# Altium schematic symbol library pporyzala-TI_Lighting.SchLib: 745 symbols (part 23 of 48)
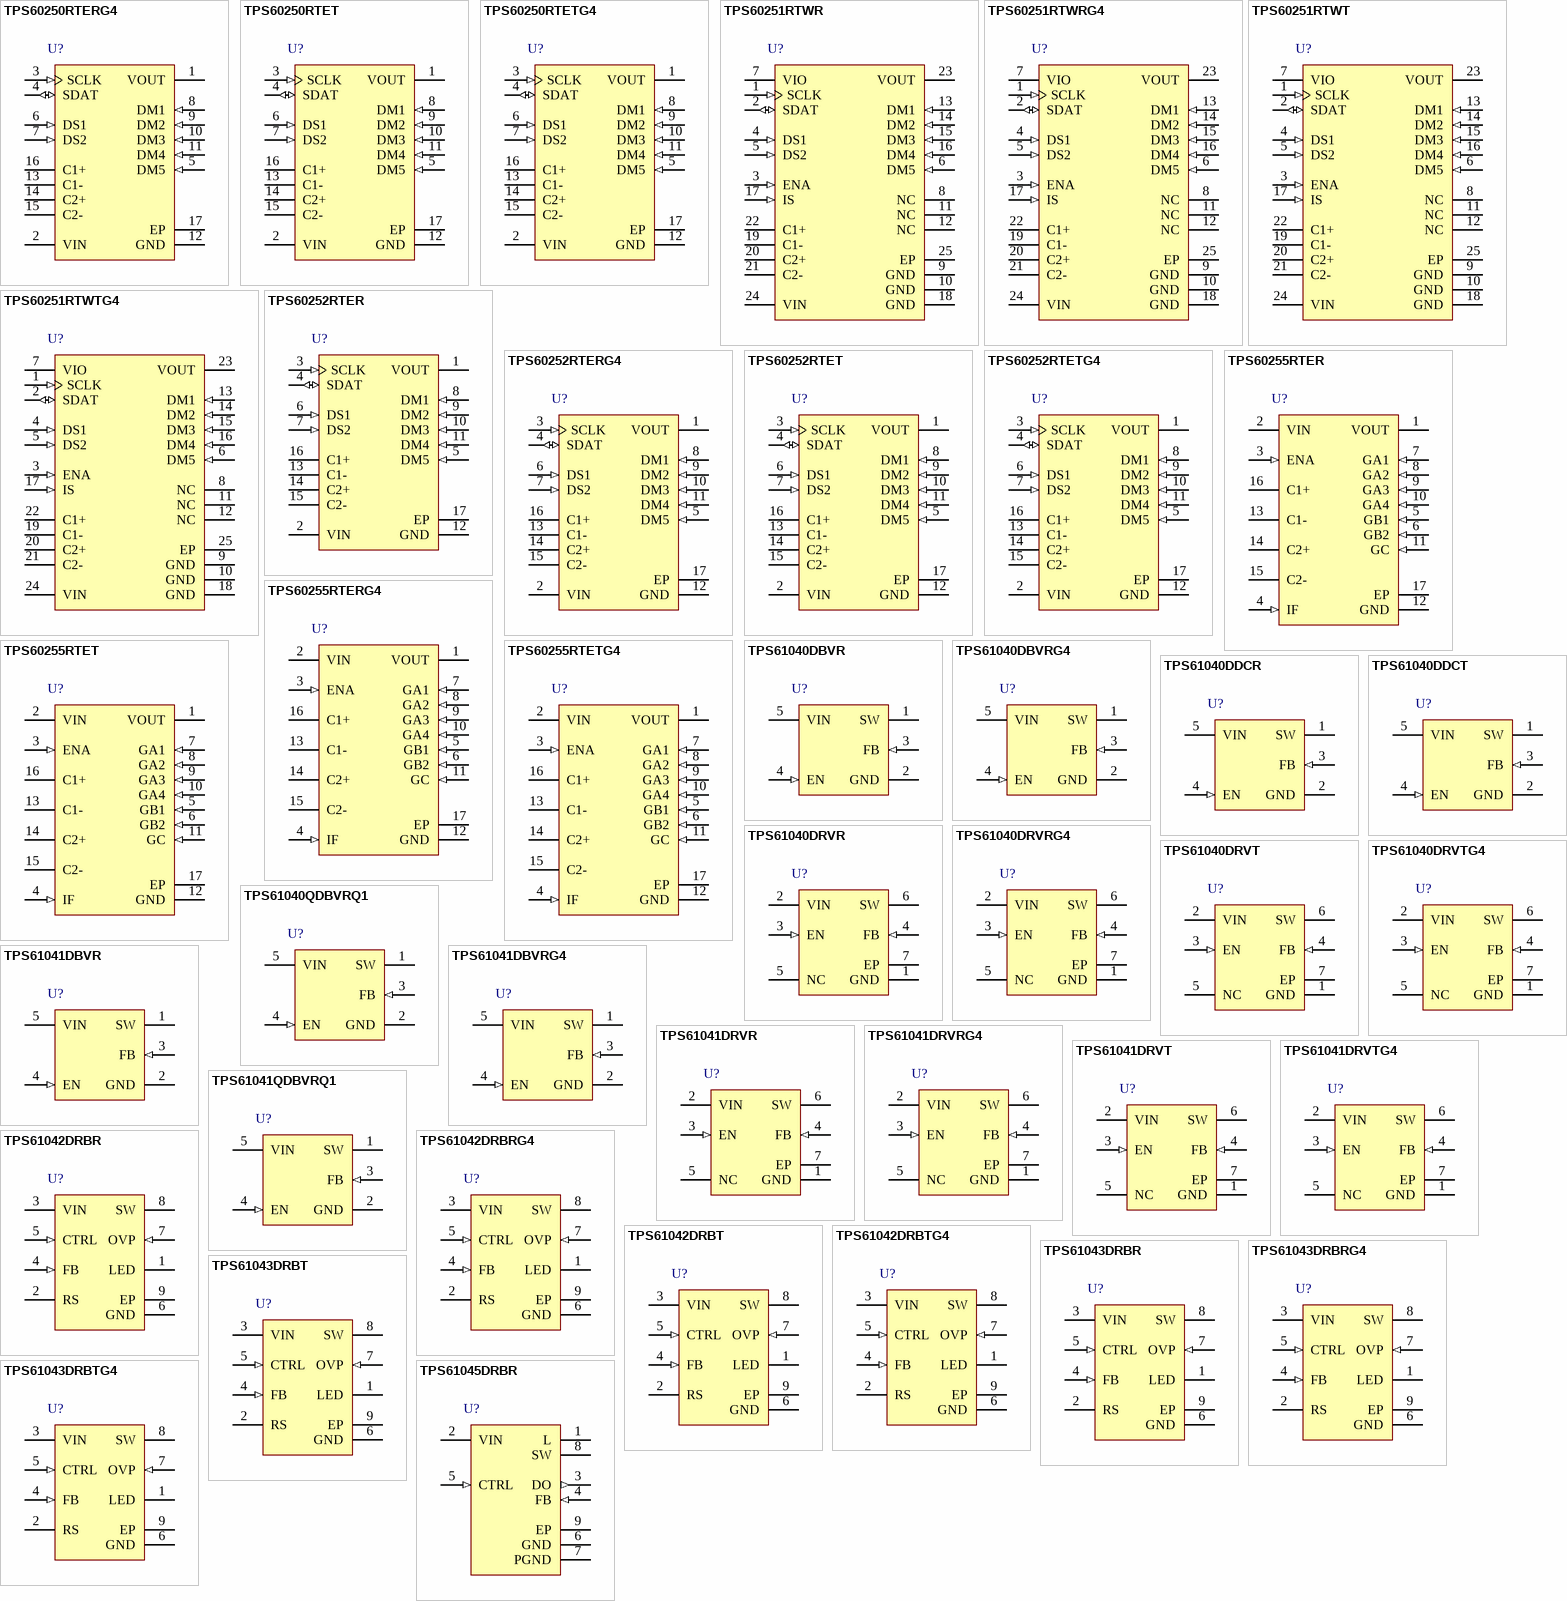
[diagram p53: symbols TPS60250RTERG4 to TPS61045DRBR]

## TPS61041DRVT
designator U?
28 V, 250 mA Switch Boost Converter for LCD and White LED Applications, 1.8 to 6 V, -40 to 85 degC, 6-pin SON (DRV6), Green (RoHS & no Sb/Br); Manufacturer: Texas Instruments; PartNumber: TPS61041DRVT; Dimming: TRUE; Iout(Max)(A): 0.05; Iq(Typ)(mA): 0.028; Rating: Catalog; SubFamily: White LED Driver; Switching Frequency(Max)(kHz): 1000; Vin(Max)(V): 6; Vin(Min)(V): 1.8; DatasheetVersion: SLVS413F; PackageVersion: 4206925/E; PackageReference: DRV6-1600X1000TP; PackageDescription: 6-Pin Plastic Small Outline No-Lead, Body 2 x 2 mm, Pitch 0.65 mm; Supplier 1: Digi-Key; Supplier Part Number 1: TPS61041DRVT-ND; Supplier 2: Newark; Supplier Part Number 2: 72M4770; Supplier 3: Mouser; Supplier Part Number 3: 595-TPS61041DRVT; Eco-Plan: Green (RoHS & no Sb/Br); Topology: Boost; Mounting Technology: Surface Mount; ComponentLink1Description: Manufacturer URL; ComponentLink1URL: http://www.ti.com/; ComponentLink2Description: Datasheet; ComponentLink2URL: http://www.ti.com/general/docs/lit/getliterature.tsp?genericPartNumber=TPS61041&fileType=pdf; ComponentLink3Description: Package Specification; ComponentLink3URL: http://www.ti.com/litv/pdf/mpds216d
footprint TI-DRV6-1600X1000TP_V (SON, 6-Leads, Body 2x2mm, Pitch 0.65mm, Thermal Pad 1X1.6mm)
pins: 1 GND (power) "Ground", 2 VIN (power) "Supply voltage pin", 3 EN (in) "This is the enable pin of the device. Pulling this pin to ground forces the device into shutdown mode reducing the supply current to less than 1 uA. This pin should not be left floating and needs to be terminated.", 4 FB (in) "This is the feedback pin of the device. Connect this pin to the external voltage divider to program the desired output voltage.", 5 NC "No connection", 6 SW (power) "Connect the inductor and the Schottky diode to this pin. This is the switch pin and is connected to the drain of the internal power MOSFET.", 7 EP "Exposed Thermal Pad."

## TPS61041DRVTG4
designator U?
28 V, 250 mA Switch Boost Converter for LCD and White LED Applications, 1.8 to 6 V, -40 to 85 degC, 6-pin SON (DRV6), Green (RoHS & no Sb/Br); Manufacturer: Texas Instruments; PartNumber: TPS61041DRVTG4; Dimming: TRUE; Iout(Max)(A): 0.05; Iq(Typ)(mA): 0.028; Rating: Catalog; SubFamily: White LED Driver; Switching Frequency(Max)(kHz): 1000; Vin(Max)(V): 6; Vin(Min)(V): 1.8; DatasheetVersion: SLVS413F; PackageVersion: 4206925/E; PackageReference: DRV6-1600X1000TP; PackageDescription: 6-Pin Plastic Small Outline No-Lead, Body 2 x 2 mm, Pitch 0.65 mm; Supplier 1: Digi-Key; Supplier Part Number 1: TPS61041DRVTG4-ND; Supplier 2: Mouser; Supplier Part Number 2: 595-TPS61041DRVTG4; Eco-Plan: Green (RoHS & no Sb/Br); Topology: Boost; Mounting Technology: Surface Mount; ComponentLink1Description: Manufacturer URL; ComponentLink1URL: http://www.ti.com/; ComponentLink2Description: Datasheet; ComponentLink2URL: http://www.ti.com/general/docs/lit/getliterature.tsp?genericPartNumber=TPS61041&fileType=pdf; ComponentLink3Description: Package Specification; ComponentLink3URL: http://www.ti.com/litv/pdf/mpds216d
footprint TI-DRV6-1600X1000TP_V (SON, 6-Leads, Body 2x2mm, Pitch 0.65mm, Thermal Pad 1X1.6mm)
pins: 1 GND (power) "Ground", 2 VIN (power) "Supply voltage pin", 3 EN (in) "This is the enable pin of the device. Pulling this pin to ground forces the device into shutdown mode reducing the supply current to less than 1 uA. This pin should not be left floating and needs to be terminated.", 4 FB (in) "This is the feedback pin of the device. Connect this pin to the external voltage divider to program the desired output voltage.", 5 NC "No connection", 6 SW (power) "Connect the inductor and the Schottky diode to this pin. This is the switch pin and is connected to the drain of the internal power MOSFET.", 7 EP "Exposed Thermal Pad."

## TPS61041QDBVRQ1
designator U?
Automotive Catalog Low Power DC / DC Boost Conveter, 1.8 to 6 V, -40 to 125 degC, 5-pin SOT23 (DBV5), Green (RoHS & no Sb/Br); Manufacturer: Texas Instruments; PartNumber: TPS61041QDBVRQ1; Dimming: TRUE; Iout(Max)(A): 0.05; Iq(Typ)(mA): 0.028; SubFamily: White LED Driver; Switching Frequency(Max)(kHz): 1000; Vin(Max)(V): 6; Vin(Min)(V): 1.8; DatasheetVersion: SGLS276C; PackageVersion: 4073253-4/K; PackageReference: DBV5; PackageDescription: 5-Pin Plastic Small Outline, Body 1.60 × 2.90 mm, Pitch 0.95 mm; Supplier 1: Digi-Key; Supplier Part Number 1: 296-21895-2-ND; Supplier 2: Digi-Key; Supplier Part Number 2: 296-21895-1-ND; Supplier 3: Digi-Key; Supplier Part Number 3: 296-21895-6-ND; Supplier 4: Newark; Supplier Part Number 4: 73J8386; Supplier 5: Mouser; Supplier Part Number 5: 595-TPS61041QDBVRQ1; Eco-Plan: Green (RoHS & no Sb/Br); Rating: Automotive; Topology: Boost; Mounting Technology: Surface Mount; Code_JEDEC: MO-178; ComponentLink1Description: Manufacturer URL; ComponentLink1URL: http://www.ti.com/; ComponentLink2Description: Datasheet; ComponentLink2URL: http://www.ti.com/general/docs/lit/getliterature.tsp?genericPartNumber=TPS61041-Q1&fileType=pdf; ComponentLink3Description: Package Specification; ComponentLink3URL: http://www.ti.com/litv/pdf/mpds018i
footprint TI-DBV5_N (SOT23, 5-Leads, Body 2.9x1.6mm, Pitch 0.95mm, IPC Medium Density)
footprint TI-DBV5_L (SOT23, 5-Leads, Body 2.9x1.6mm, Pitch 0.95mm, IPC High Density)
footprint TI-DBV5_M (SOT23, 5-Leads, Body 2.9x1.6mm, Pitch 0.95mm, IPC Low Density)
pins: 1 SW (power) "Connect the inductor and the Schottky diode to this pin. This is the switch pin and is connected to the drain of the internal power MOSFET.", 2 GND (power) "Ground", 3 FB (in) "This is the feedback pin of the device. Connect this pin to the external voltage divider to program the desired output voltage.", 4 EN (in) "This is the enable pin of the device. Pulling this pin to ground forces the device into shutdown mode reducing the supply current to less than 1 µA. This pin should not be left floating and needs to be terminated.", 5 VIN (power) "Supply voltage pin"

## TPS61042DRBR
designator U?
30 V, 500 mA Switch Boost Converter for White LED Applications, 1.8 to 6 V, -40 to 85 degC, 8-pin SON (DRB8), Green (RoHS & no Sb/Br); Manufacturer: Texas Instruments; PartNumber: TPS61042DRBR; Dimming: TRUE; Iout(Max)(A): 0.03; Iq(Typ)(mA): 0.038; Rating: Catalog; SubFamily: White LED Driver; Switching Frequency(Max)(kHz): 1000; Vin(Max)(V): 6; Vin(Min)(V): 1.8; DatasheetVersion: SLVS441C; PackageVersion: 4203482-2/K; PackageReference: DRB8-1750X1500TP; PackageDescription: 8-Pin Plastic Small Outline, Body 3 x 3 mm, Pitch 0.65 mm; Supplier 1: Digi-Key; Supplier Part Number 1: 296-14449-2-ND; Supplier 2: Digi-Key; Supplier Part Number 2: 296-14449-1-ND; Supplier 3: Digi-Key; Supplier Part Number 3: 296-14449-6-ND; Supplier 4: Farnell; Supplier Part Number 4: 1470481; Supplier 5: Newark; Supplier Part Number 5: 80K6166; Supplier 6: Mouser; Supplier Part Number 6: 595-TPS61042DRBR; Eco-Plan: Green (RoHS & no Sb/Br); Topology: Boost; Mounting Technology: Surface Mount; ComponentLink1Description: Manufacturer URL; ComponentLink1URL: http://www.ti.com/; ComponentLink2Description: Datasheet; ComponentLink2URL: http://www.ti.com/general/docs/lit/getliterature.tsp?genericPartNumber=TPS61042&fileType=pdf; ComponentLink3Description: Package Specification; ComponentLink3URL: http://www.ti.com/litv/pdf/mpds118h
footprint TI-DRB8-1750X1500TP_V (SON, 8-Leads, Body 3x3mm, Pitch 0.65mm, Thermal Pad 1.50 x 3.8mm)
pins: 1 LED "Input of the LED switch (Q2). Connect the LEDs to this pin.", 2 RS "Output of the internal LED switch. The sense resistor that programs the LED current is connected to RS.", 3 VIN (power) "Input supply pin.", 4 FB (in) "Feedback. FB regulates the LED current through the sense resistor by regulating the voltage across RS to 252mV.", 5 CTRL (in) "Combined enable and PWM control pin. If CTRL is constantly pulled high, the device is enabled and the internal LED switch (Q2) is constantly turned on. When CTRL is pulled to GND, the device is disabled. Apply a PWM signal (See Datasheet)", 6 GND (power), 7 OVP (in) "Overvoltage protection. OVP is connected to the output capacitor of the converter", 8 SW (power) "Drain of the integrated switch (Q1)", 9 EP (power) "Exposed Thermal Pad"

## TPS61042DRBRG4
designator U?
30 V, 500 mA Switch Boost Converter for White LED Applications, 1.8 to 6 V, -40 to 85 degC, 8-pin SON (DRB8), Green (RoHS & no Sb/Br); Manufacturer: Texas Instruments; PartNumber: TPS61042DRBRG4; Dimming: TRUE; Iout(Max)(A): 0.03; Iq(Typ)(mA): 0.038; Rating: Catalog; SubFamily: White LED Driver; Switching Frequency(Max)(kHz): 1000; Vin(Max)(V): 6; Vin(Min)(V): 1.8; DatasheetVersion: SLVS441C; PackageVersion: 4203482-2/K; PackageReference: DRB8-1750X1500TP; PackageDescription: 8-Pin Plastic Small Outline, Body 3 x 3 mm, Pitch 0.65 mm; Supplier 1: Digi-Key; Supplier Part Number 1: TPS61042DRBRG4-ND; Supplier 2: Newark; Supplier Part Number 2: 99K4411; Supplier 3: Mouser; Supplier Part Number 3: 595-TPS61042DRBRG4; Eco-Plan: Green (RoHS & no Sb/Br); Topology: Boost; Mounting Technology: Surface Mount; ComponentLink1Description: Manufacturer URL; ComponentLink1URL: http://www.ti.com/; ComponentLink2Description: Datasheet; ComponentLink2URL: http://www.ti.com/general/docs/lit/getliterature.tsp?genericPartNumber=TPS61042&fileType=pdf; ComponentLink3Description: Package Specification; ComponentLink3URL: http://www.ti.com/litv/pdf/mpds118h
footprint TI-DRB8-1750X1500TP_V (SON, 8-Leads, Body 3x3mm, Pitch 0.65mm, Thermal Pad 1.50 x 3.8mm)
pins: 1 LED "Input of the LED switch (Q2). Connect the LEDs to this pin.", 2 RS "Output of the internal LED switch. The sense resistor that programs the LED current is connected to RS.", 3 VIN (power) "Input supply pin.", 4 FB (in) "Feedback. FB regulates the LED current through the sense resistor by regulating the voltage across RS to 252mV.", 5 CTRL (in) "Combined enable and PWM control pin. If CTRL is constantly pulled high, the device is enabled and the internal LED switch (Q2) is constantly turned on. When CTRL is pulled to GND, the device is disabled. Apply a PWM signal (See Datasheet)", 6 GND (power), 7 OVP (in) "Overvoltage protection. OVP is connected to the output capacitor of the converter", 8 SW (power) "Drain of the integrated switch (Q1)", 9 EP (power) "Exposed Thermal Pad"

## TPS61042DRBT
designator U?
30 V, 500 mA Switch Boost Converter for White LED Applications, 1.8 to 6 V, -40 to 85 degC, 8-pin SON (DRB8), Green (RoHS & no Sb/Br); Manufacturer: Texas Instruments; PartNumber: TPS61042DRBT; Dimming: TRUE; Iout(Max)(A): 0.03; Iq(Typ)(mA): 0.038; Rating: Catalog; SubFamily: White LED Driver; Switching Frequency(Max)(kHz): 1000; Vin(Max)(V): 6; Vin(Min)(V): 1.8; DatasheetVersion: SLVS441C; PackageVersion: 4203482-2/K; PackageReference: DRB8-1750X1500TP; PackageDescription: 8-Pin Plastic Small Outline, Body 3 x 3 mm, Pitch 0.65 mm; Supplier 1: Digi-Key; Supplier Part Number 1: 296-27008-2-ND; Supplier 2: Digi-Key; Supplier Part Number 2: 296-27008-1-ND; Supplier 3: Digi-Key; Supplier Part Number 3: 296-27008-6-ND; Supplier 4: Newark; Supplier Part Number 4: 32H6569; Supplier 5: Mouser; Supplier Part Number 5: 595-TPS61042DRBT; Eco-Plan: Green (RoHS & no Sb/Br); Topology: Boost; Mounting Technology: Surface Mount; ComponentLink1Description: Manufacturer URL; ComponentLink1URL: http://www.ti.com/; ComponentLink2Description: Datasheet; ComponentLink2URL: http://www.ti.com/general/docs/lit/getliterature.tsp?genericPartNumber=TPS61042&fileType=pdf; ComponentLink3Description: Package Specification; ComponentLink3URL: http://www.ti.com/litv/pdf/mpds118h
footprint TI-DRB8-1750X1500TP_V (SON, 8-Leads, Body 3x3mm, Pitch 0.65mm, Thermal Pad 1.50 x 3.8mm)
pins: 1 LED "Input of the LED switch (Q2). Connect the LEDs to this pin.", 2 RS "Output of the internal LED switch. The sense resistor that programs the LED current is connected to RS.", 3 VIN (power) "Input supply pin.", 4 FB (in) "Feedback. FB regulates the LED current through the sense resistor by regulating the voltage across RS to 252mV.", 5 CTRL (in) "Combined enable and PWM control pin. If CTRL is constantly pulled high, the device is enabled and the internal LED switch (Q2) is constantly turned on. When CTRL is pulled to GND, the device is disabled. Apply a PWM signal (See Datasheet)", 6 GND (power), 7 OVP (in) "Overvoltage protection. OVP is connected to the output capacitor of the converter", 8 SW (power) "Drain of the integrated switch (Q1)", 9 EP (power) "Exposed Thermal Pad"

## TPS61042DRBTG4
designator U?
30 V, 500 mA Switch Boost Converter for White LED Applications, 1.8 to 6 V, -40 to 85 degC, 8-pin SON (DRB8), Green (RoHS & no Sb/Br); Manufacturer: Texas Instruments; PartNumber: TPS61042DRBTG4; Dimming: TRUE; Iout(Max)(A): 0.03; Iq(Typ)(mA): 0.038; Rating: Catalog; SubFamily: White LED Driver; Switching Frequency(Max)(kHz): 1000; Vin(Max)(V): 6; Vin(Min)(V): 1.8; DatasheetVersion: SLVS441C; PackageVersion: 4203482-2/K; PackageReference: DRB8-1750X1500TP; PackageDescription: 8-Pin Plastic Small Outline, Body 3 x 3 mm, Pitch 0.65 mm; Supplier 1: Digi-Key; Supplier Part Number 1: TPS61042DRBTG4-ND; Supplier 2: Mouser; Supplier Part Number 2: 595-TPS61042DRBTG4; Eco-Plan: Green (RoHS & no Sb/Br); Topology: Boost; Mounting Technology: Surface Mount; ComponentLink1Description: Manufacturer URL; ComponentLink1URL: http://www.ti.com/; ComponentLink2Description: Datasheet; ComponentLink2URL: http://www.ti.com/general/docs/lit/getliterature.tsp?genericPartNumber=TPS61042&fileType=pdf; ComponentLink3Description: Package Specification; ComponentLink3URL: http://www.ti.com/litv/pdf/mpds118h
footprint TI-DRB8-1750X1500TP_V (SON, 8-Leads, Body 3x3mm, Pitch 0.65mm, Thermal Pad 1.50 x 3.8mm)
pins: 1 LED "Input of the LED switch (Q2). Connect the LEDs to this pin.", 2 RS "Output of the internal LED switch. The sense resistor that programs the LED current is connected to RS.", 3 VIN (power) "Input supply pin.", 4 FB (in) "Feedback. FB regulates the LED current through the sense resistor by regulating the voltage across RS to 252mV.", 5 CTRL (in) "Combined enable and PWM control pin. If CTRL is constantly pulled high, the device is enabled and the internal LED switch (Q2) is constantly turned on. When CTRL is pulled to GND, the device is disabled. Apply a PWM signal (See Datasheet)", 6 GND (power), 7 OVP (in) "Overvoltage protection. OVP is connected to the output capacitor of the converter", 8 SW (power) "Drain of the integrated switch (Q1)", 9 EP (power) "Exposed Thermal Pad"

## TPS61043DRBR
designator U?
Constant Current LED Driver, 1.8 to 6 V, -40 to 85 degC, 8-pin SON (DRB8), Green (RoHS & no Sb/Br); Manufacturer: Texas Instruments; PartNumber: TPS61043DRBR; Dimming: TRUE; Iout(Max)(A): 0.03; Iq(Typ)(mA): 0.038; Rating: Catalog; SubFamily: White LED Driver; Switching Frequency(Max)(kHz): 1000; Topology: Boost; Vin(Max)(V): 6; Vin(Min)(V): 1.8; DatasheetVersion: SLVS465A; PackageVersion: 4203482-2/K; PackageReference: DRB8-1750X1500TP; PackageDescription: 8-Pin Plastic Small Outline, Body 3 x 3 mm, Pitch 0.65 mm; Supplier 1: Digi-Key; Supplier Part Number 1: 296-16675-2-ND; Supplier 2: Digi-Key; Supplier Part Number 2: 296-16675-1-ND; Supplier 3: Digi-Key; Supplier Part Number 3: 296-16675-6-ND; Supplier 4: Newark; Supplier Part Number 4: 90H4862; Supplier 5: Mouser; Supplier Part Number 5: 595-TPS61043DRBR; Eco-Plan: Green (RoHS & no Sb/Br); Mounting Technology: Surface Mount; ComponentLink1Description: Manufacturer URL; ComponentLink1URL: http://www.ti.com/; ComponentLink2Description: Datasheet; ComponentLink2URL: http://www.ti.com/general/docs/lit/getliterature.tsp?genericPartNumber=TPS61043&fileType=pdf; ComponentLink3Description: Package Specification; ComponentLink3URL: http://www.ti.com/litv/pdf/mpds118h
footprint TI-DRB8-1750X1500TP_V (SON, 8-Leads, Body 3x3mm, Pitch 0.65mm, Thermal Pad 1.50 x 3.8mm)
pins: 1 LED "Input of the LED switch (Q2). Connect the LEDs to this pin.", 2 RS "Output of the internal LED switch. The sense resistor that programs the LED current is connected to RS.", 3 VIN (power) "Input supply pin.", 4 FB (in) "Feedback. FB regulates the LED current through the sense resistor by regulating the voltage across RS to 252 mV.", 5 CTRL (in) "Combined enable and PWM control pin. If CTRL is constantly pulled high, the device is enabled and the internal LED switch (Q2) is constantly turned on. When CTRL is pulled to GND, the device is disabled. Apply a PWM signal (See Datasheet)", 6 GND (power), 7 OVP (in) "Overvoltage protection. OVP is connected to the output capacitor of the converter.", 8 SW (power) "Drain of the integrated switch (Q1)", 9 EP (power) "The exposed thermal die pad is connected to GND."

## TPS61043DRBRG4
designator U?
Constant Current LED Driver, 1.8 to 6 V, -40 to 85 degC, 8-pin SON (DRB8), Green (RoHS & no Sb/Br); Manufacturer: Texas Instruments; PartNumber: TPS61043DRBRG4; Dimming: TRUE; Iout(Max)(A): 0.03; Iq(Typ)(mA): 0.038; Rating: Catalog; SubFamily: White LED Driver; Switching Frequency(Max)(kHz): 1000; Topology: Boost; Vin(Max)(V): 6; Vin(Min)(V): 1.8; DatasheetVersion: SLVS465A; PackageVersion: 4203482-2/K; PackageReference: DRB8-1750X1500TP; PackageDescription: 8-Pin Plastic Small Outline, Body 3 x 3 mm, Pitch 0.65 mm; Supplier 1: Digi-Key; Supplier Part Number 1: TPS61043DRBRG4-ND; Supplier 2: Newark; Supplier Part Number 2: 24K6023; Supplier 3: Mouser; Supplier Part Number 3: 595-TPS61043DRBRG4; Eco-Plan: Green (RoHS & no Sb/Br); Mounting Technology: Surface Mount; ComponentLink1Description: Manufacturer URL; ComponentLink1URL: http://www.ti.com/; ComponentLink2Description: Datasheet; ComponentLink2URL: http://www.ti.com/general/docs/lit/getliterature.tsp?genericPartNumber=TPS61043&fileType=pdf; ComponentLink3Description: Package Specification; ComponentLink3URL: http://www.ti.com/litv/pdf/mpds118h
footprint TI-DRB8-1750X1500TP_V (SON, 8-Leads, Body 3x3mm, Pitch 0.65mm, Thermal Pad 1.50 x 3.8mm)
pins: 1 LED "Input of the LED switch (Q2). Connect the LEDs to this pin.", 2 RS "Output of the internal LED switch. The sense resistor that programs the LED current is connected to RS.", 3 VIN (power) "Input supply pin.", 4 FB (in) "Feedback. FB regulates the LED current through the sense resistor by regulating the voltage across RS to 252 mV.", 5 CTRL (in) "Combined enable and PWM control pin. If CTRL is constantly pulled high, the device is enabled and the internal LED switch (Q2) is constantly turned on. When CTRL is pulled to GND, the device is disabled. Apply a PWM signal (See Datasheet)", 6 GND (power), 7 OVP (in) "Overvoltage protection. OVP is connected to the output capacitor of the converter.", 8 SW (power) "Drain of the integrated switch (Q1)", 9 EP (power) "The exposed thermal die pad is connected to GND."

## TPS61043DRBT
designator U?
Constant Current LED Driver, 1.8 to 6 V, -40 to 85 degC, 8-pin SON (DRB8), Green (RoHS & no Sb/Br); Manufacturer: Texas Instruments; PartNumber: TPS61043DRBT; Dimming: TRUE; Iout(Max)(A): 0.03; Iq(Typ)(mA): 0.038; Rating: Catalog; SubFamily: White LED Driver; Switching Frequency(Max)(kHz): 1000; Topology: Boost; Vin(Max)(V): 6; Vin(Min)(V): 1.8; DatasheetVersion: SLVS465A; PackageVersion: 4203482-2/K; PackageReference: DRB8-1750X1500TP; PackageDescription: 8-Pin Plastic Small Outline, Body 3 x 3 mm, Pitch 0.65 mm; Supplier 1: Digi-Key; Supplier Part Number 1: 296-27009-2-ND; Supplier 2: Digi-Key; Supplier Part Number 2: 296-27009-1-ND; Supplier 3: Digi-Key; Supplier Part Number 3: 296-27009-6-ND; Supplier 4: Newark; Supplier Part Number 4: 90H4863; Supplier 5: Mouser; Supplier Part Number 5: 595-TPS61043DRBT; Eco-Plan: Green (RoHS & no Sb/Br); Mounting Technology: Surface Mount; ComponentLink1Description: Manufacturer URL; ComponentLink1URL: http://www.ti.com/; ComponentLink2Description: Datasheet; ComponentLink2URL: http://www.ti.com/general/docs/lit/getliterature.tsp?genericPartNumber=TPS61043&fileType=pdf; ComponentLink3Description: Package Specification; ComponentLink3URL: http://www.ti.com/litv/pdf/mpds118h
footprint TI-DRB8-1750X1500TP_V (SON, 8-Leads, Body 3x3mm, Pitch 0.65mm, Thermal Pad 1.50 x 3.8mm)
pins: 1 LED "Input of the LED switch (Q2). Connect the LEDs to this pin.", 2 RS "Output of the internal LED switch. The sense resistor that programs the LED current is connected to RS.", 3 VIN (power) "Input supply pin.", 4 FB (in) "Feedback. FB regulates the LED current through the sense resistor by regulating the voltage across RS to 252 mV.", 5 CTRL (in) "Combined enable and PWM control pin. If CTRL is constantly pulled high, the device is enabled and the internal LED switch (Q2) is constantly turned on. When CTRL is pulled to GND, the device is disabled. Apply a PWM signal (See Datasheet)", 6 GND (power), 7 OVP (in) "Overvoltage protection. OVP is connected to the output capacitor of the converter.", 8 SW (power) "Drain of the integrated switch (Q1)", 9 EP (power) "The exposed thermal die pad is connected to GND."

## TPS61043DRBTG4
designator U?
Constant Current LED Driver, 1.8 to 6 V, -40 to 85 degC, 8-pin SON (DRB8), Green (RoHS & no Sb/Br); Manufacturer: Texas Instruments; PartNumber: TPS61043DRBTG4; Dimming: TRUE; Iout(Max)(A): 0.03; Iq(Typ)(mA): 0.038; Rating: Catalog; SubFamily: White LED Driver; Switching Frequency(Max)(kHz): 1000; Topology: Boost; Vin(Max)(V): 6; Vin(Min)(V): 1.8; DatasheetVersion: SLVS465A; PackageVersion: 4203482-2/K; PackageReference: DRB8-1750X1500TP; PackageDescription: 8-Pin Plastic Small Outline, Body 3 x 3 mm, Pitch 0.65 mm; Supplier 1: Digi-Key; Supplier Part Number 1: TPS61043DRBTG4-ND; Supplier 2: Newark; Supplier Part Number 2: 52M6121; Supplier 3: Mouser; Supplier Part Number 3: 595-TPS61043DRBTG4; Eco-Plan: Green (RoHS & no Sb/Br); Mounting Technology: Surface Mount; ComponentLink1Description: Manufacturer URL; ComponentLink1URL: http://www.ti.com/; ComponentLink2Description: Datasheet; ComponentLink2URL: http://www.ti.com/general/docs/lit/getliterature.tsp?genericPartNumber=TPS61043&fileType=pdf; ComponentLink3Description: Package Specification; ComponentLink3URL: http://www.ti.com/litv/pdf/mpds118h
footprint TI-DRB8-1750X1500TP_V (SON, 8-Leads, Body 3x3mm, Pitch 0.65mm, Thermal Pad 1.50 x 3.8mm)
pins: 1 LED "Input of the LED switch (Q2). Connect the LEDs to this pin.", 2 RS "Output of the internal LED switch. The sense resistor that programs the LED current is connected to RS.", 3 VIN (power) "Input supply pin.", 4 FB (in) "Feedback. FB regulates the LED current through the sense resistor by regulating the voltage across RS to 252 mV.", 5 CTRL (in) "Combined enable and PWM control pin. If CTRL is constantly pulled high, the device is enabled and the internal LED switch (Q2) is constantly turned on. When CTRL is pulled to GND, the device is disabled. Apply a PWM signal (See Datasheet)", 6 GND (power), 7 OVP (in) "Overvoltage protection. OVP is connected to the output capacitor of the converter.", 8 SW (power) "Drain of the integrated switch (Q1)", 9 EP (power) "The exposed thermal die pad is connected to GND."

## TPS61045DRBR
designator U?
28 V, 85% Efficient Boost Converter, Digitally Adjustable, 1.8 to 6 V, -40 to 85 degC, 8-pin SON (DRB8), Green (RoHS & no Sb/Br); Manufacturer: Texas Instruments; PartNumber: TPS61045DRBR; Iout(Max)(A): 0.02; Iq(Typ)(mA): 0.04; Rating: Catalog; SubFamily: White LED Driver; Switching Frequency(Max)(kHz): 1000; Vin(Max)(V): 6; Vin(Min)(V): 1.8; DatasheetVersion: SLVS440B; PackageVersion: 4203482-2/K; PackageReference: DRB8-1750X1500TP; PackageDescription: 8-Pin Plastic Small Outline, Body 3 x 3 mm, Pitch 0.65 mm; Supplier 1: Digi-Key; Supplier Part Number 1: 296-14419-2-ND; Supplier 2: Digi-Key; Supplier Part Number 2: 296-14419-1-ND; Supplier 3: Digi-Key; Supplier Part Number 3: 296-14419-6-ND; Supplier 4: Newark; Supplier Part Number 4: 32H6571; Supplier 5: Mouser; Supplier Part Number 5: 595-TPS61045DRBR; Eco-Plan: Green (RoHS & no Sb/Br); Topology: Boost; Mounting Technology: Surface Mount; ComponentLink1Description: Manufacturer URL; ComponentLink1URL: http://www.ti.com/; ComponentLink2Description: Datasheet; ComponentLink2URL: http://www.ti.com/general/docs/lit/getliterature.tsp?genericPartNumber=TPS61045&fileType=pdf; ComponentLink3Description: Package Specification; ComponentLink3URL: http://www.ti.com/litv/pdf/mpds118h
footprint TI-DRB8-1750X1500TP_V (SON, 8-Leads, Body 3x3mm, Pitch 0.65mm, Thermal Pad 1.50 x 3.8mm)
pins: 1 L (power) "Drain of the internal input switch (Q1). Connect L to the inductor.", 2 VIN (power) "Input supply pin", 3 DO (out) "Internal DAC output. DO programs the output voltage via the CTRL pin. Refer to the application information section for further information.", 4 FB (in) "Feedback. FB must be connected to the output voltage-feedback divider.", 5 CTRL (in) "Combined enable and digital output voltage programming pin. Pulling CTRL constantly high enables the device. When CTRL is pulled to GND, the device is disabled and the input is disconnected from the output by opening the (See Datasheet)", 6 GND (power) "Analog ground. GND must be directly connected to the PGND pin. Refer to the application information section for further information.", 7 PGND (power) "Power ground", 8 SW (power) "Drain of the integrated main switch Q2. SW is connected to the inductor and anode of the Schottky rectifier diode.", 9 EP (power) "Exposed thermal pad"

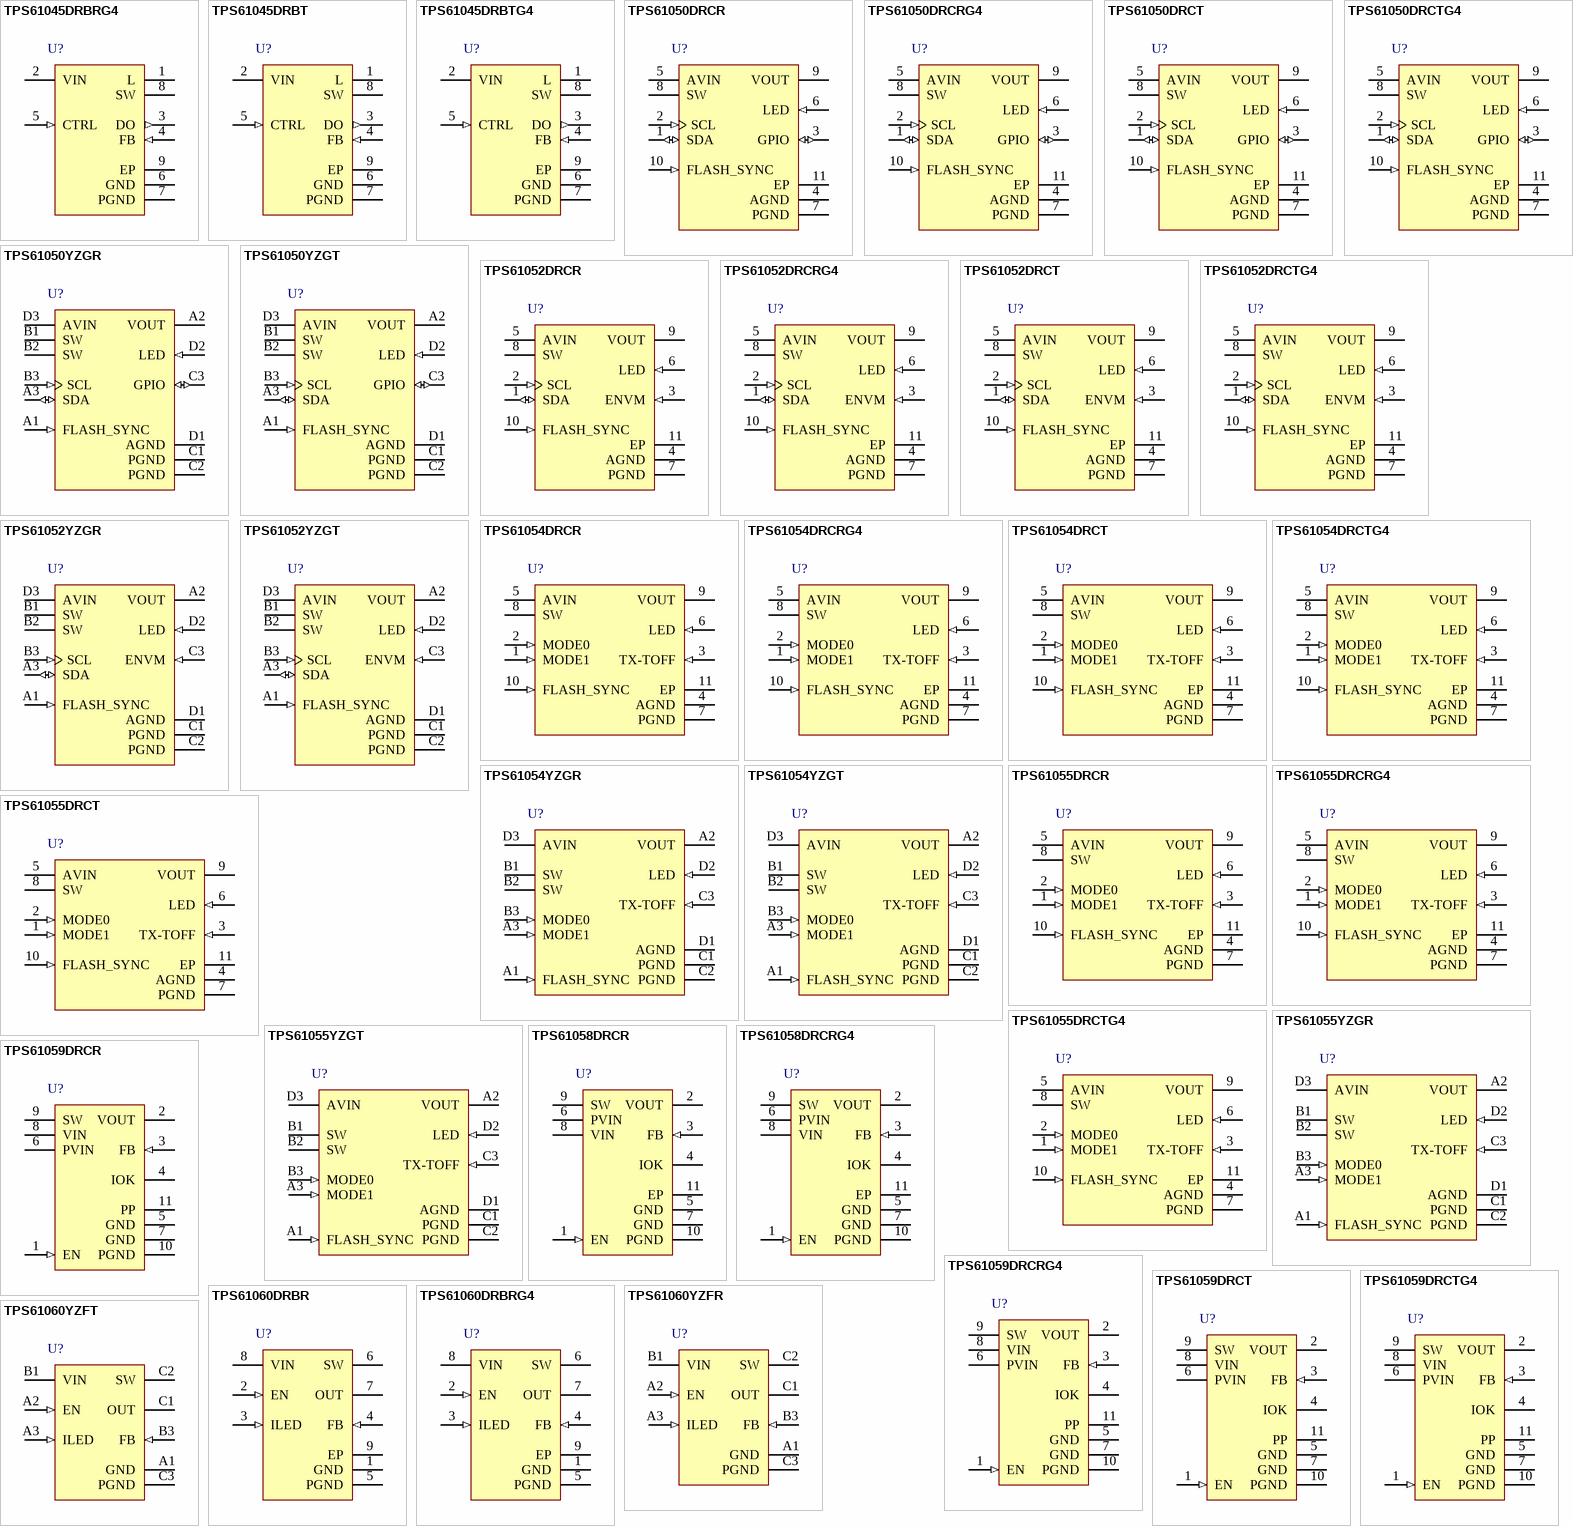
[diagram p16: symbols TPS61045DRBRG4 to TPS61060YZFT]

## TPS61045DRBRG4
designator U?
28 V, 85% Efficient Boost Converter, Digitally Adjustable, 1.8 to 6 V, -40 to 85 degC, 8-pin SON (DRB8), Green (RoHS & no Sb/Br); Manufacturer: Texas Instruments; PartNumber: TPS61045DRBRG4; Iout(Max)(A): 0.02; Iq(Typ)(mA): 0.04; Rating: Catalog; SubFamily: White LED Driver; Switching Frequency(Max)(kHz): 1000; Vin(Max)(V): 6; Vin(Min)(V): 1.8; DatasheetVersion: SLVS440B; PackageVersion: 4203482-2/K; PackageReference: DRB8-1750X1500TP; PackageDescription: 8-Pin Plastic Small Outline, Body 3 x 3 mm, Pitch 0.65 mm; Supplier 1: Digi-Key; Supplier Part Number 1: TPS61045DRBRG4-ND; Supplier 2: Newark; Supplier Part Number 2: 52K5942; Supplier 3: Mouser; Supplier Part Number 3: 595-TPS61045DRBRG4; Eco-Plan: Green (RoHS & no Sb/Br); Topology: Boost; Mounting Technology: Surface Mount; ComponentLink1Description: Manufacturer URL; ComponentLink1URL: http://www.ti.com/; ComponentLink2Description: Datasheet; ComponentLink2URL: http://www.ti.com/general/docs/lit/getliterature.tsp?genericPartNumber=TPS61045&fileType=pdf; ComponentLink3Description: Package Specification; ComponentLink3URL: http://www.ti.com/litv/pdf/mpds118h
footprint TI-DRB8-1750X1500TP_V (SON, 8-Leads, Body 3x3mm, Pitch 0.65mm, Thermal Pad 1.50 x 3.8mm)
pins: 1 L (power) "Drain of the internal input switch (Q1). Connect L to the inductor.", 2 VIN (power) "Input supply pin", 3 DO (out) "Internal DAC output. DO programs the output voltage via the CTRL pin. Refer to the application information section for further information.", 4 FB (in) "Feedback. FB must be connected to the output voltage-feedback divider.", 5 CTRL (in) "Combined enable and digital output voltage programming pin. Pulling CTRL constantly high enables the device. When CTRL is pulled to GND, the device is disabled and the input is disconnected from the output by opening the (See Datasheet)", 6 GND (power) "Analog ground. GND must be directly connected to the PGND pin. Refer to the application information section for further information.", 7 PGND (power) "Power ground", 8 SW (power) "Drain of the integrated main switch Q2. SW is connected to the inductor and anode of the Schottky rectifier diode.", 9 EP (power) "Exposed thermal pad"

## TPS61045DRBT
designator U?
28 V, 85% Efficient Boost Converter, Digitally Adjustable, 1.8 to 6 V, -40 to 85 degC, 8-pin SON (DRB8), Green (RoHS & no Sb/Br); Manufacturer: Texas Instruments; PartNumber: TPS61045DRBT; Iout(Max)(A): 0.02; Iq(Typ)(mA): 0.04; Rating: Catalog; SubFamily: White LED Driver; Switching Frequency(Max)(kHz): 1000; Vin(Max)(V): 6; Vin(Min)(V): 1.8; DatasheetVersion: SLVS440B; PackageVersion: 4203482-2/K; PackageReference: DRB8-1750X1500TP; PackageDescription: 8-Pin Plastic Small Outline, Body 3 x 3 mm, Pitch 0.65 mm; Supplier 1: Digi-Key; Supplier Part Number 1: 296-32499-2-ND; Supplier 2: Digi-Key; Supplier Part Number 2: 296-32499-1-ND; Supplier 3: Digi-Key; Supplier Part Number 3: 296-32499-6-ND; Supplier 4: Newark; Supplier Part Number 4: 32H6572; Supplier 5: Mouser; Supplier Part Number 5: 595-TPS61045DRBT; Eco-Plan: Green (RoHS & no Sb/Br); Topology: Boost; Mounting Technology: Surface Mount; ComponentLink1Description: Manufacturer URL; ComponentLink1URL: http://www.ti.com/; ComponentLink2Description: Datasheet; ComponentLink2URL: http://www.ti.com/general/docs/lit/getliterature.tsp?genericPartNumber=TPS61045&fileType=pdf; ComponentLink3Description: Package Specification; ComponentLink3URL: http://www.ti.com/litv/pdf/mpds118h
footprint TI-DRB8-1750X1500TP_V (SON, 8-Leads, Body 3x3mm, Pitch 0.65mm, Thermal Pad 1.50 x 3.8mm)
pins: 1 L (power) "Drain of the internal input switch (Q1). Connect L to the inductor.", 2 VIN (power) "Input supply pin", 3 DO (out) "Internal DAC output. DO programs the output voltage via the CTRL pin. Refer to the application information section for further information.", 4 FB (in) "Feedback. FB must be connected to the output voltage-feedback divider.", 5 CTRL (in) "Combined enable and digital output voltage programming pin. Pulling CTRL constantly high enables the device. When CTRL is pulled to GND, the device is disabled and the input is disconnected from the output by opening the (See Datasheet)", 6 GND (power) "Analog ground. GND must be directly connected to the PGND pin. Refer to the application information section for further information.", 7 PGND (power) "Power ground", 8 SW (power) "Drain of the integrated main switch Q2. SW is connected to the inductor and anode of the Schottky rectifier diode.", 9 EP (power) "Exposed thermal pad"

## TPS61045DRBTG4
designator U?
28 V, 85% Efficient Boost Converter, Digitally Adjustable, 1.8 to 6 V, -40 to 85 degC, 8-pin SON (DRB8), Green (RoHS & no Sb/Br); Manufacturer: Texas Instruments; PartNumber: TPS61045DRBTG4; Iout(Max)(A): 0.02; Iq(Typ)(mA): 0.04; Rating: Catalog; SubFamily: White LED Driver; Switching Frequency(Max)(kHz): 1000; Vin(Max)(V): 6; Vin(Min)(V): 1.8; DatasheetVersion: SLVS440B; PackageVersion: 4203482-2/K; PackageReference: DRB8-1750X1500TP; PackageDescription: 8-Pin Plastic Small Outline, Body 3 x 3 mm, Pitch 0.65 mm; Supplier 1: Digi-Key; Supplier Part Number 1: TPS61045DRBTG4-ND; Supplier 2: Farnell; Supplier Part Number 2: 1226311; Supplier 3: Newark; Supplier Part Number 3: 85K1704; Supplier 4: Mouser; Supplier Part Number 4: 595-TPS61045DRBTG4; Eco-Plan: Green (RoHS & no Sb/Br); Topology: Boost; Mounting Technology: Surface Mount; ComponentLink1Description: Manufacturer URL; ComponentLink1URL: http://www.ti.com/; ComponentLink2Description: Datasheet; ComponentLink2URL: http://www.ti.com/general/docs/lit/getliterature.tsp?genericPartNumber=TPS61045&fileType=pdf; ComponentLink3Description: Package Specification; ComponentLink3URL: http://www.ti.com/litv/pdf/mpds118h
footprint TI-DRB8-1750X1500TP_V (SON, 8-Leads, Body 3x3mm, Pitch 0.65mm, Thermal Pad 1.50 x 3.8mm)
pins: 1 L (power) "Drain of the internal input switch (Q1). Connect L to the inductor.", 2 VIN (power) "Input supply pin", 3 DO (out) "Internal DAC output. DO programs the output voltage via the CTRL pin. Refer to the application information section for further information.", 4 FB (in) "Feedback. FB must be connected to the output voltage-feedback divider.", 5 CTRL (in) "Combined enable and digital output voltage programming pin. Pulling CTRL constantly high enables the device. When CTRL is pulled to GND, the device is disabled and the input is disconnected from the output by opening the (See Datasheet)", 6 GND (power) "Analog ground. GND must be directly connected to the PGND pin. Refer to the application information section for further information.", 7 PGND (power) "Power ground", 8 SW (power) "Drain of the integrated main switch Q2. SW is connected to the inductor and anode of the Schottky rectifier diode.", 9 EP (power) "Exposed thermal pad"

## TPS61050DRCR
designator U?
1.2 A High Power White LED Driver with I2C Compatible Interface, 2.5 to 6 V, -40 to 85 degC, 10-pin SON (DRC10), Green (RoHS & no Sb/Br); Manufacturer: Texas Instruments; PartNumber: TPS61050DRCR; Dimming: TRUE; Iout(Max)(A): 1.2; Iq(Typ)(mA): 8.5; Rating: Catalog; SubFamily: Backlight; Switching Frequency(Max)(kHz): 2000; Topology: Boost; Vin(Max)(V): 6; Vin(Min)(V): 2.5; DatasheetVersion: SLUS525; PackageVersion: 4204102-3/L; PackageReference: DRC10-2400X1650TP; PackageDescription: 10-Pin Plastic Small Outline, Body 3 x 3 mm, Pitch 0.5 mm; Supplier 1: Digi-Key; Supplier Part Number 1: TPS61050DRCR-ND; Supplier 2: Newark; Supplier Part Number 2: 37M0061; Supplier 3: Mouser; Supplier Part Number 3: 595-TPS61050DRCR; Eco-Plan: Green (RoHS & no Sb/Br); Synchronous Rectification: TRUE; Mounting Technology: Surface Mount; ComponentLink1Description: Manufacturer URL; ComponentLink1URL: http://www.ti.com/; ComponentLink2Description: Datasheet; ComponentLink2URL: http://www.ti.com/general/docs/lit/getliterature.tsp?genericPartNumber=TPS61050&fileType=pdf; ComponentLink3Description: Package Specification; ComponentLink3URL: http://www.ti.com/litv/pdf/mpds117k
footprint TI-DRC10-2400X1650TP_V (SON, 10-Leads, Body 3x3mm, Pitch 0.5mm, Thermal Pad 3x1.65mm)
pins: 1 SDA (io) "Serial interface address/data line. This pin must not be left floating and must be terminated.", 2 SCL (in) "Serial interface clock line. This pin must not be left floating and must be terminated.", 3 GPIO (io) "General purpose input/output (refer to REGISTER2). This pin can either be configured as a logic input or as an open-drain output (TPS61050).", 4 AGND (power) "Analog ground.", 5 AVIN (power) "This is the input voltage pin of the device. Connect directly to the input bypass capacitor.", 6 LED (in) "LED return input. This feedback pin regulates the LED current through the internal sense resistor by regulating the voltage across it. The regulation operates with typically 250 mV dropout voltage. Connect to the cathode of (See Datasheet)", 7 PGND (power) "Power ground. Connect to AGND underneath IC.", 8 SW (power) "Inductor connection. Drain of the internal power MOSFET. Connect to the switched side of the inductor. SW is high impedance during shutdown.", 9 VOUT (power) "Boost converter output.", 10 FLASH_SYNC (in) "Flash strobe pulse synchronization input. FLASH_SYNC = LOW (GND): The device is operating and regulating the LED current to the torch current level (TC). FLASH_SYNC = HIGH (VIN): The device is operating and regulating the (See Datasheet)", 11 EP (power) "Internally connected to PGND."

## TPS61050DRCRG4
designator U?
1.2 A High Power White LED Driver with I2C Compatible Interface, 2.5 to 6 V, -40 to 85 degC, 10-pin SON (DRC10), Green (RoHS & no Sb/Br); Manufacturer: Texas Instruments; PartNumber: TPS61050DRCRG4; Dimming: TRUE; Iout(Max)(A): 1.2; Iq(Typ)(mA): 8.5; Rating: Catalog; SubFamily: Backlight; Switching Frequency(Max)(kHz): 2000; Topology: Boost; Vin(Max)(V): 6; Vin(Min)(V): 2.5; DatasheetVersion: SLUS525; PackageVersion: 4204102-3/L; PackageReference: DRC10-2400X1650TP; PackageDescription: 10-Pin Plastic Small Outline, Body 3 x 3 mm, Pitch 0.5 mm; Supplier 1: Digi-Key; Supplier Part Number 1: TPS61050DRCRG4-ND; Supplier 2: Mouser; Supplier Part Number 2: 595-TPS61050DRCRG4; Eco-Plan: Green (RoHS & no Sb/Br); Synchronous Rectification: TRUE; Mounting Technology: Surface Mount; ComponentLink1Description: Manufacturer URL; ComponentLink1URL: http://www.ti.com/; ComponentLink2Description: Datasheet; ComponentLink2URL: http://www.ti.com/general/docs/lit/getliterature.tsp?genericPartNumber=TPS61050&fileType=pdf; ComponentLink3Description: Package Specification; ComponentLink3URL: http://www.ti.com/litv/pdf/mpds117k
footprint TI-DRC10-2400X1650TP_V (SON, 10-Leads, Body 3x3mm, Pitch 0.5mm, Thermal Pad 3x1.65mm)
pins: 1 SDA (io) "Serial interface address/data line. This pin must not be left floating and must be terminated.", 2 SCL (in) "Serial interface clock line. This pin must not be left floating and must be terminated.", 3 GPIO (io) "General purpose input/output (refer to REGISTER2). This pin can either be configured as a logic input or as an open-drain output (TPS61050).", 4 AGND (power) "Analog ground.", 5 AVIN (power) "This is the input voltage pin of the device. Connect directly to the input bypass capacitor.", 6 LED (in) "LED return input. This feedback pin regulates the LED current through the internal sense resistor by regulating the voltage across it. The regulation operates with typically 250 mV dropout voltage. Connect to the cathode of (See Datasheet)", 7 PGND (power) "Power ground. Connect to AGND underneath IC.", 8 SW (power) "Inductor connection. Drain of the internal power MOSFET. Connect to the switched side of the inductor. SW is high impedance during shutdown.", 9 VOUT (power) "Boost converter output.", 10 FLASH_SYNC (in) "Flash strobe pulse synchronization input. FLASH_SYNC = LOW (GND): The device is operating and regulating the LED current to the torch current level (TC). FLASH_SYNC = HIGH (VIN): The device is operating and regulating the (See Datasheet)", 11 EP (power) "Internally connected to PGND."

## TPS61050DRCT
designator U?
1.2 A High Power White LED Driver with I2C Compatible Interface, 2.5 to 6 V, -40 to 85 degC, 10-pin SON (DRC10), Green (RoHS & no Sb/Br); Manufacturer: Texas Instruments; PartNumber: TPS61050DRCT; Dimming: TRUE; Iout(Max)(A): 1.2; Iq(Typ)(mA): 8.5; Rating: Catalog; SubFamily: Backlight; Switching Frequency(Max)(kHz): 2000; Topology: Boost; Vin(Max)(V): 6; Vin(Min)(V): 2.5; DatasheetVersion: SLUS525; PackageVersion: 4204102-3/L; PackageReference: DRC10-2400X1650TP; PackageDescription: 10-Pin Plastic Small Outline, Body 3 x 3 mm, Pitch 0.5 mm; Supplier 1: Digi-Key; Supplier Part Number 1: 296-21681-2-ND; Supplier 2: Digi-Key; Supplier Part Number 2: 296-21681-1-ND; Supplier 3: Digi-Key; Supplier Part Number 3: 296-21681-6-ND; Supplier 4: Newark; Supplier Part Number 4: 37M0062; Supplier 5: Mouser; Supplier Part Number 5: 595-TPS61050DRCT; Eco-Plan: Green (RoHS & no Sb/Br); Synchronous Rectification: TRUE; Mounting Technology: Surface Mount; ComponentLink1Description: Manufacturer URL; ComponentLink1URL: http://www.ti.com/; ComponentLink2Description: Datasheet; ComponentLink2URL: http://www.ti.com/general/docs/lit/getliterature.tsp?genericPartNumber=TPS61050&fileType=pdf; ComponentLink3Description: Package Specification; ComponentLink3URL: http://www.ti.com/litv/pdf/mpds117k
footprint TI-DRC10-2400X1650TP_V (SON, 10-Leads, Body 3x3mm, Pitch 0.5mm, Thermal Pad 3x1.65mm)
pins: 1 SDA (io) "Serial interface address/data line. This pin must not be left floating and must be terminated.", 2 SCL (in) "Serial interface clock line. This pin must not be left floating and must be terminated.", 3 GPIO (io) "General purpose input/output (refer to REGISTER2). This pin can either be configured as a logic input or as an open-drain output (TPS61050).", 4 AGND (power) "Analog ground.", 5 AVIN (power) "This is the input voltage pin of the device. Connect directly to the input bypass capacitor.", 6 LED (in) "LED return input. This feedback pin regulates the LED current through the internal sense resistor by regulating the voltage across it. The regulation operates with typically 250 mV dropout voltage. Connect to the cathode of (See Datasheet)", 7 PGND (power) "Power ground. Connect to AGND underneath IC.", 8 SW (power) "Inductor connection. Drain of the internal power MOSFET. Connect to the switched side of the inductor. SW is high impedance during shutdown.", 9 VOUT (power) "Boost converter output.", 10 FLASH_SYNC (in) "Flash strobe pulse synchronization input. FLASH_SYNC = LOW (GND): The device is operating and regulating the LED current to the torch current level (TC). FLASH_SYNC = HIGH (VIN): The device is operating and regulating the (See Datasheet)", 11 EP (power) "Internally connected to PGND."

## TPS61050DRCTG4
designator U?
1.2 A High Power White LED Driver with I2C Compatible Interface, 2.5 to 6 V, -40 to 85 degC, 10-pin SON (DRC10), Green (RoHS & no Sb/Br); Manufacturer: Texas Instruments; PartNumber: TPS61050DRCTG4; Dimming: TRUE; Iout(Max)(A): 1.2; Iq(Typ)(mA): 8.5; Rating: Catalog; SubFamily: Backlight; Switching Frequency(Max)(kHz): 2000; Topology: Boost; Vin(Max)(V): 6; Vin(Min)(V): 2.5; DatasheetVersion: SLUS525; PackageVersion: 4204102-3/L; PackageReference: DRC10-2400X1650TP; PackageDescription: 10-Pin Plastic Small Outline, Body 3 x 3 mm, Pitch 0.5 mm; Supplier 1: Digi-Key; Supplier Part Number 1: TPS61050DRCTG4-ND; Supplier 2: Mouser; Supplier Part Number 2: 595-TPS61050DRCTG4; Eco-Plan: Green (RoHS & no Sb/Br); Synchronous Rectification: TRUE; Mounting Technology: Surface Mount; ComponentLink1Description: Manufacturer URL; ComponentLink1URL: http://www.ti.com/; ComponentLink2Description: Datasheet; ComponentLink2URL: http://www.ti.com/general/docs/lit/getliterature.tsp?genericPartNumber=TPS61050&fileType=pdf; ComponentLink3Description: Package Specification; ComponentLink3URL: http://www.ti.com/litv/pdf/mpds117k
footprint TI-DRC10-2400X1650TP_V (SON, 10-Leads, Body 3x3mm, Pitch 0.5mm, Thermal Pad 3x1.65mm)
pins: 1 SDA (io) "Serial interface address/data line. This pin must not be left floating and must be terminated.", 2 SCL (in) "Serial interface clock line. This pin must not be left floating and must be terminated.", 3 GPIO (io) "General purpose input/output (refer to REGISTER2). This pin can either be configured as a logic input or as an open-drain output (TPS61050).", 4 AGND (power) "Analog ground.", 5 AVIN (power) "This is the input voltage pin of the device. Connect directly to the input bypass capacitor.", 6 LED (in) "LED return input. This feedback pin regulates the LED current through the internal sense resistor by regulating the voltage across it. The regulation operates with typically 250 mV dropout voltage. Connect to the cathode of (See Datasheet)", 7 PGND (power) "Power ground. Connect to AGND underneath IC.", 8 SW (power) "Inductor connection. Drain of the internal power MOSFET. Connect to the switched side of the inductor. SW is high impedance during shutdown.", 9 VOUT (power) "Boost converter output.", 10 FLASH_SYNC (in) "Flash strobe pulse synchronization input. FLASH_SYNC = LOW (GND): The device is operating and regulating the LED current to the torch current level (TC). FLASH_SYNC = HIGH (VIN): The device is operating and regulating the (See Datasheet)", 11 EP (power) "Internally connected to PGND."

## TPS61050YZGR
designator U?
1.2 A High Power White LED Driver with I2C Compatible Interface, 2.5 to 6 V, -40 to 85 degC, 12-pin BGA (YZG12), Green (RoHS & no Sb/Br); Manufacturer: Texas Instruments; PartNumber: TPS61050YZGR; Dimming: TRUE; Iout(Max)(A): 1.2; Iq(Typ)(mA): 8.5; Rating: Catalog; SubFamily: Backlight; Switching Frequency(Max)(kHz): 2000; Topology: Boost; Vin(Max)(V): 6; Vin(Min)(V): 2.5; DatasheetVersion: SLUS525; PackageVersion: 4205059/D; PackageReference: YZG12; PackageDescription: 12-Ball, Silicon Grid Array, Body Size 1.96 x 1.46 mm, Pitch 0.5 mm; Supplier 1: Digi-Key; Supplier Part Number 1: TPS61050YZGR-ND; Supplier 2: Newark; Supplier Part Number 2: 37M0063; Supplier 3: Mouser; Supplier Part Number 3: 595-TPS61050YZGR; Eco-Plan: Green (RoHS & no Sb/Br); Synchronous Rectification: TRUE; Mounting Technology: Surface Mount; ComponentLink1Description: Manufacturer URL; ComponentLink1URL: http://www.ti.com/; ComponentLink2Description: Datasheet; ComponentLink2URL: http://www.ti.com/general/docs/lit/getliterature.tsp?genericPartNumber=TPS61050&fileType=pdf; ComponentLink3Description: Package Specification; ComponentLink3URL: http://www.ti.com/lit/ds/symlink/tps61054.pdf
footprint TI-YZG12-1960X1460DE (BGA, 12-Balls, Body 1.96x1.46mm, Pitch 0.5mm)
pins: A1 FLASH_SYNC (in) "Flash strobe pulse synchronization input. FLASH_SYNC = LOW (GND): The device is operating and regulating the LED current to the torch current level (TC). FLASH_SYNC = HIGH (VIN): The device is operating and regulating the (See Datasheet)", A2 VOUT (power) "Boost converter output.", A3 SDA (io) "Serial interface address/data line. This pin must not be left floating and must be terminated.", B1 SW (power) "Inductor connection. Drain of the internal power MOSFET. Connect to the switched side of the inductor. SW is high impedance during shutdown.", B2 SW (power) "Inductor connection. Drain of the internal power MOSFET. Connect to the switched side of the inductor. SW is high impedance during shutdown.", B3 SCL (in) "Serial interface clock line. This pin must not be left floating and must be terminated.", C1 PGND (power) "Power ground. Connect to AGND underneath IC.", C2 PGND (power) "Power ground. Connect to AGND underneath IC.", C3 GPIO (io) "General purpose input/output (refer to REGISTER2). This pin can either be configured as a logic input or as an open-drain output (TPS61050).", D1 AGND (power) "Analog ground.", D2 LED (in) "LED return input. This feedback pin regulates the LED current through the internal sense resistor by regulating the voltage across it. The regulation operates with typically 250 mV dropout voltage. Connect to the cathode of (See Datasheet)", D3 AVIN (power) "This is the input voltage pin of the device. Connect directly to the input bypass capacitor."

## TPS61050YZGT
designator U?
1.2 A High Power White LED Driver with I2C Compatible Interface, 2.5 to 6 V, -40 to 85 degC, 12-pin BGA (YZG12), Green (RoHS & no Sb/Br); Manufacturer: Texas Instruments; PartNumber: TPS61050YZGT; Dimming: TRUE; Iout(Max)(A): 1.2; Iq(Typ)(mA): 8.5; Rating: Catalog; SubFamily: Backlight; Switching Frequency(Max)(kHz): 2000; Topology: Boost; Vin(Max)(V): 6; Vin(Min)(V): 2.5; DatasheetVersion: SLUS525; PackageVersion: 4205059/D; PackageReference: YZG12; PackageDescription: 12-Ball, Silicon Grid Array, Body Size 1.96 x 1.46 mm, Pitch 0.5 mm; Supplier 1: Digi-Key; Supplier Part Number 1: 296-21682-2-ND; Supplier 2: Digi-Key; Supplier Part Number 2: 296-21682-1-ND; Supplier 3: Digi-Key; Supplier Part Number 3: 296-21682-6-ND; Supplier 4: Newark; Supplier Part Number 4: 37M0064; Supplier 5: Mouser; Supplier Part Number 5: 595-TPS61050YZGT; Eco-Plan: Green (RoHS & no Sb/Br); Synchronous Rectification: TRUE; Mounting Technology: Surface Mount; ComponentLink1Description: Manufacturer URL; ComponentLink1URL: http://www.ti.com/; ComponentLink2Description: Datasheet; ComponentLink2URL: http://www.ti.com/general/docs/lit/getliterature.tsp?genericPartNumber=TPS61050&fileType=pdf; ComponentLink3Description: Package Specification; ComponentLink3URL: http://www.ti.com/lit/ds/symlink/tps61054.pdf
footprint TI-YZG12-1960X1460DE (BGA, 12-Balls, Body 1.96x1.46mm, Pitch 0.5mm)
pins: A1 FLASH_SYNC (in) "Flash strobe pulse synchronization input. FLASH_SYNC = LOW (GND): The device is operating and regulating the LED current to the torch current level (TC). FLASH_SYNC = HIGH (VIN): The device is operating and regulating the (See Datasheet)", A2 VOUT (power) "Boost converter output.", A3 SDA (io) "Serial interface address/data line. This pin must not be left floating and must be terminated.", B1 SW (power) "Inductor connection. Drain of the internal power MOSFET. Connect to the switched side of the inductor. SW is high impedance during shutdown.", B2 SW (power) "Inductor connection. Drain of the internal power MOSFET. Connect to the switched side of the inductor. SW is high impedance during shutdown.", B3 SCL (in) "Serial interface clock line. This pin must not be left floating and must be terminated.", C1 PGND (power) "Power ground. Connect to AGND underneath IC.", C2 PGND (power) "Power ground. Connect to AGND underneath IC.", C3 GPIO (io) "General purpose input/output (refer to REGISTER2). This pin can either be configured as a logic input or as an open-drain output (TPS61050).", D1 AGND (power) "Analog ground.", D2 LED (in) "LED return input. This feedback pin regulates the LED current through the internal sense resistor by regulating the voltage across it. The regulation operates with typically 250 mV dropout voltage. Connect to the cathode of (See Datasheet)", D3 AVIN (power) "This is the input voltage pin of the device. Connect directly to the input bypass capacitor."